# Altium schematic symbol library Power IC Sym Lib.SchLib: 31 symbols
Pins are listed as number, name and electrical type; pins without a type are passive.

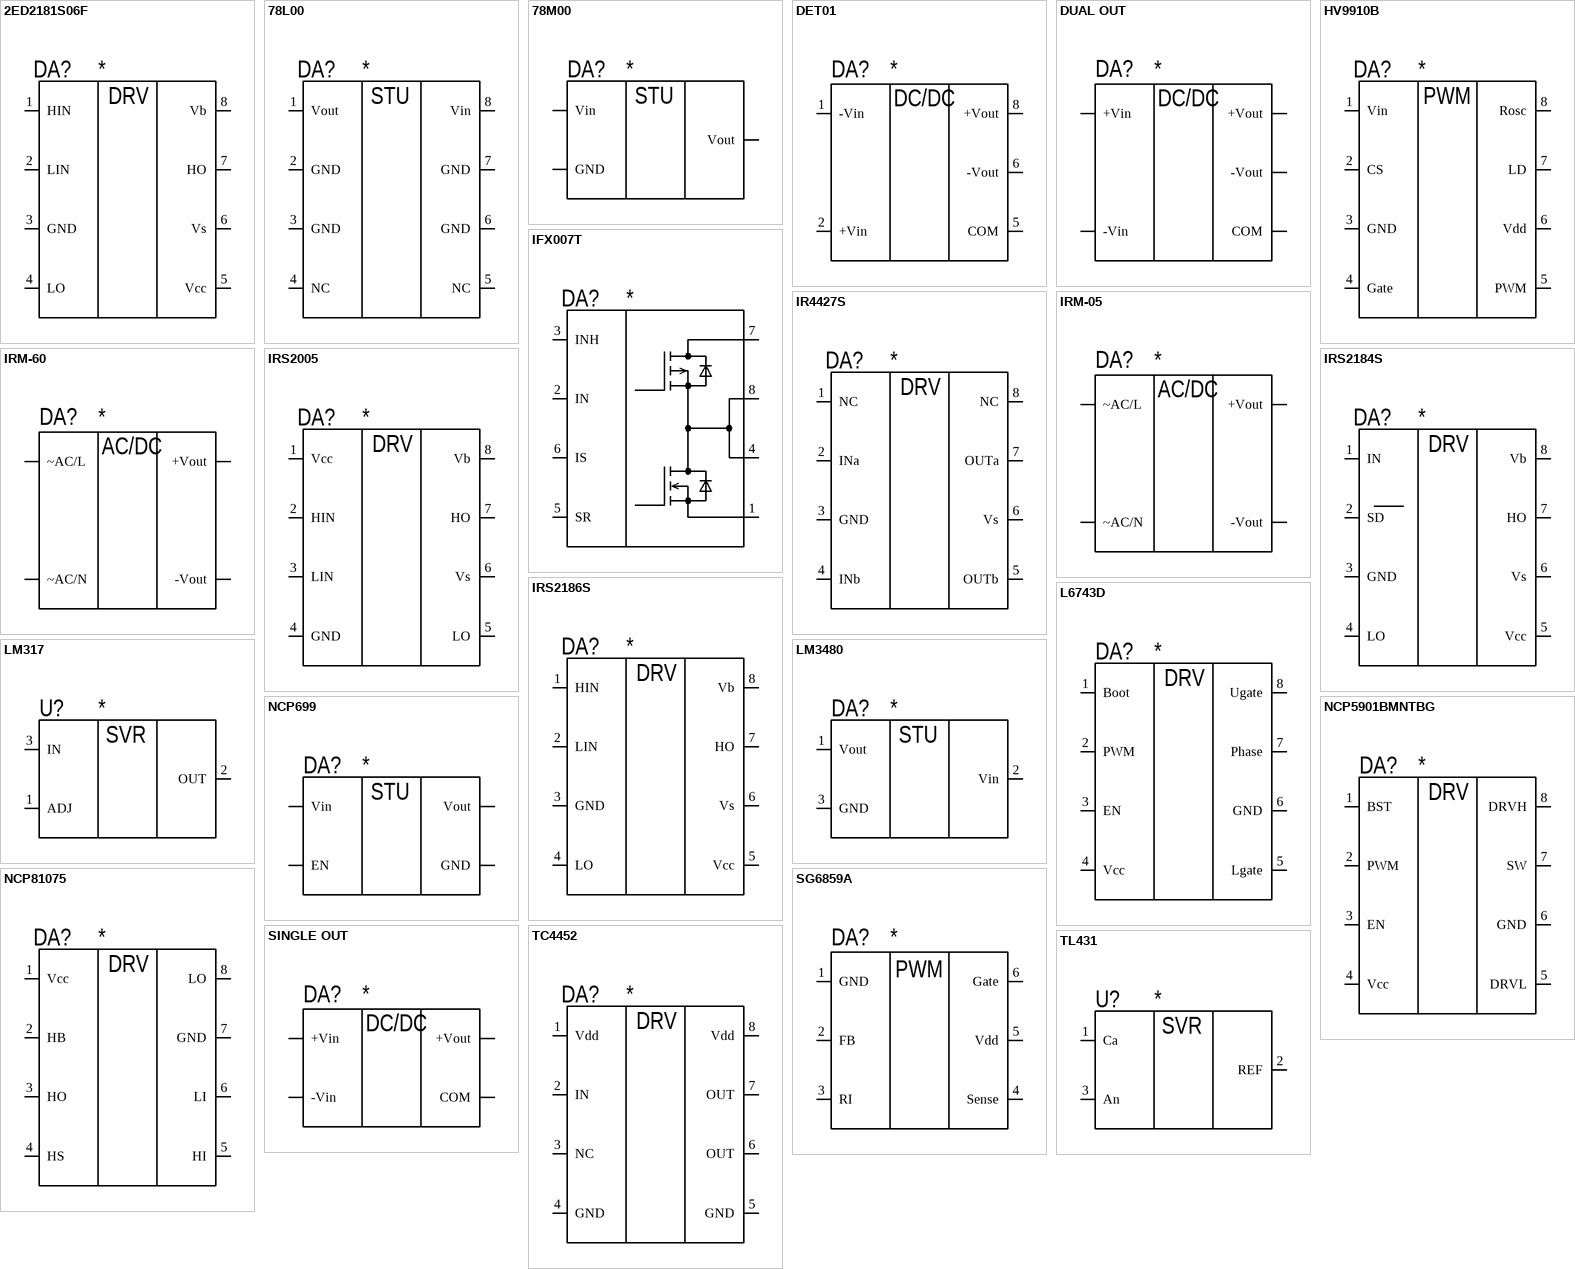
[diagram p0: symbols 2ED2181S06F to TL431]

## 2ED2181S06F
designator DA?
Model: *
pins: 1 HIN "High Side Input", 2 LIN "Low Side Input", 3 GND "Common Ground", 4 LO "Low-side Gate Drive Output", 5 Vcc "Power Supply", 6 Vs "High-side floating supply return", 7 HO "High-side Gate Drive Output", 8 Vb "High-side floating supply"
text: DRV

## 78L00
designator DA?
Model: *
pins: 1 Vout, 2 GND, 3 GND, 4 NC, 5 NC, 6 GND, 7 GND, 8 Vin
text: STU

## 78M00
designator DA?
Model: *
pins: GND, Input Vin, Output Vout
text: STU

## DET01
designator DA?
Model: *
pins: 1 -Vin, 2 +Vin, 5 COM, 6 -Vout, 8 +Vout
text: DC/DC

## DUAL OUT
designator DA?
Model: *
pins: +Vin, +Vout, -Vin, -Vout, COM
text: DC/DC

## HV9910B
designator DA?
Model: *
pins: 1 Vin, 2 CS, 3 GND, 4 Gate, 5 PWM, 6 Vdd, 7 LD, 8 Rosc

## IFX007T
designator DA?
Model: *
pins: 1 GND, 2 IN, 3 INH, 4 OUT, 5 SR, 6 IS, 7 Vсс, 8 OUT

## IR4427S
designator DA?
Model: *
pins: 1 NC, 2 INa, 3 GND, 4 INb, 5 OUTb, 6 Vs, 7 OUTa, 8 NC
text: DRV

## IRM-05
designator DA?
Model: *
pins: +V +Vout, -V -Vout, AC/L ~AC/L, AC/N ~AC/N
text: AC/DC

## IRM-60
designator DA?
Model: *
pins: +V +Vout, -V -Vout, AC/L ~AC/L, AC/N ~AC/N
text: AC/DC

## IRS2005
designator DA?
Model: *
pins: 1 Vcc, 2 HIN, 3 LIN, 4 GND, 5 LO, 6 Vs, 7 HO, 8 Vb
text: DRV

## IRS2184S
designator DA?
Model: *
pins: 1 IN "Input", 2 SD "ShutDown Input", 3 GND "Common Ground", 4 LO "Low-side Gate Drive Output", 5 Vcc "Power Supply", 6 Vs "High-side floating supply return", 7 HO "High-side Gate Drive Output", 8 Vb "High-side floating supply"
text: DRV

## IRS2186S
designator DA?
Model: *
pins: 1 HIN "High Side Input", 2 LIN "Low Side Input", 3 GND "Common Ground", 4 LO "Low-side Gate Drive Output", 5 Vcc "Power Supply", 6 Vs "High-side floating supply return", 7 HO "High-side Gate Drive Output", 8 Vb "High-side floating supply"
text: DRV

## L6743D
designator DA?
Model: *
pins: 1 Boot, 2 PWM, 3 EN, 4 Vcc, 5 Lgate, 6 GND, 7 Phase, 8 Ugate
text: DRV

## LM317
designator U?
Model: *
pins: 1 ADJ, 2 OUT, 3 IN
text: SVR

## LM3480
designator DA?
Model: *
pins: 1 Vout, 2 Vin, 3 GND
text: STU

## NCP699
designator DA?
Model: *
pins: 1 Vin, 2 GND, 3 EN, 5 Vout
text: STU

## NCP5901BMNTBG
designator DA?
Model: *
pins: 1 BST, 2 PWM, 3 EN, 4 Vcc, 5 DRVL, 6 GND, 7 SW, 8 DRVH
text: DRV

## NCP81075
designator DA?
Model: *
pins: 1 Vcc, 2 HB, 3 HO, 4 HS, 5 HI, 6 LI, 7 GND, 8 LO
text: DRV

## SG6859A
designator DA?
Model: *
pins: 1 GND, 2 FB, 3 RI, 4 Sense, 5 Vdd, 6 Gate
text: PWM

## SINGLE OUT
designator DA?
Model: *
pins: +Vin, +Vout, -Vin, COM
text: DC/DC

## TC4452
designator DA?
Model: *
pins: 1 Vdd "High Side Input", 2 IN "Low Side Input", 3 NC "Common Ground", 4 GND "Low-side Gate Drive Output", 5 GND "Power Supply", 6 OUT "High-side floating supply return", 7 OUT "High-side Gate Drive Output", 8 Vdd "High-side floating supply"
text: DRV

## TL431
designator U?
Model: *
pins: 1 Ca, 2 REF, 3 An
text: SVR

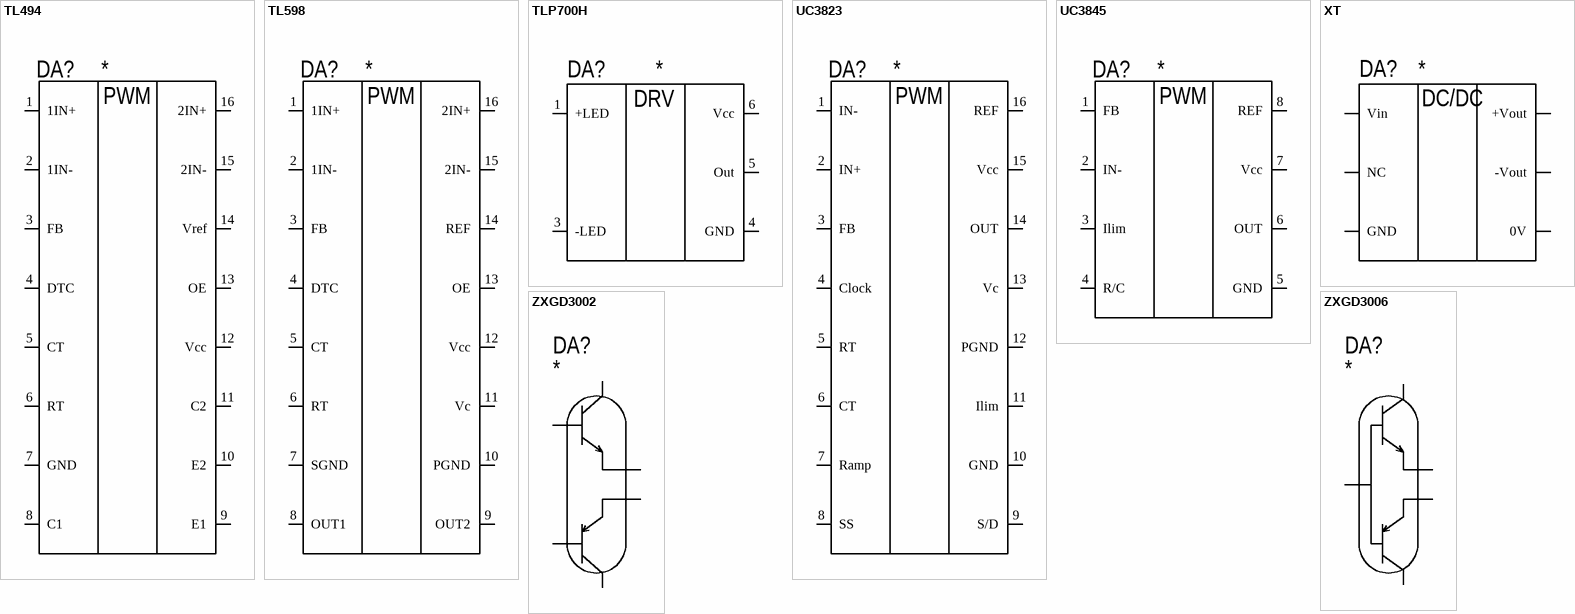
[diagram p1: symbols TL494 to ZXGD3006]

## TL494
designator DA?
Model: *
pins: 1 1IN+, 2 1IN-, 3 FB, 4 DTC, 5 CT, 6 RT, 7 GND, 8 C1, 9 E1, 10 E2, 11 C2, 12 Vcc, 13 OE, 14 Vref "Reference Voltage +5V", 15 2IN-, 16 2IN+
text: PWM

## TL598
designator DA?
Model: *
pins: 1 1IN+, 2 1IN-, 3 FB, 4 DTC, 5 CT, 6 RT, 7 SGND, 8 OUT1, 9 OUT2, 10 PGND, 11 Vc, 12 Vcc, 13 OE, 14 REF, 15 2IN-, 16 2IN+
text: PWM

## TLP700H
designator DA?
Model: *
pins: 1 +LED "Anode LED", 3 -LED "Cathode LED", 4 GND "Anode LED", 5 Out, 6 Vcc "Anode LED"
text: DRV

## UC3823
designator DA?
Model: *
pins: 1 IN-, 2 IN+, 3 FB, 4 Clock, 5 RT, 6 CT, 7 Ramp, 8 SS, 9 S/D, 10 GND, 11 Ilim, 12 PGND, 13 Vc, 14 OUT, 15 Vcc, 16 REF
text: PWM

## UC3845
designator DA?
Model: *
pins: 1 FB, 2 IN-, 3 Ilim, 4 R/C, 5 GND, 6 OUT, 7 Vcc, 8 REF
text: PWM

## XT
designator DA?
Model: *
pins: 1 GND, 2 Vin, 4 0V, 5 -Vout, 7 +Vout, 10 NC
text: DC/DC

## ZXGD3002
designator DA?
Model: *
pins: 1, 2, 3, 4, 5, 6

## ZXGD3006
designator DA?
Model: *
pins: 1, 2, 3, 4, 6